# Altium integrated library BQ21040DBVR.IntLib: 1 symbol
Pins are listed as number, name and electrical type; pins without a type are passive.

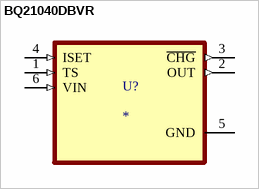
[diagram p0: symbol BQ21040DBVR]

## BQ21040DBVR
designator U?
1-cell, 0.8-A Li-ion and Li-polymer battery charger; MF: Texas Instruments; MP: BQ21040DBVR; SnapEDA_Link: https://www.snapeda.com/parts/BQ21040DBVR/Texas+Instruments/view-part/?ref=snap; Package: SOT-23-6 Texas Instruments; Value: *; Check_prices: https://www.snapeda.com/parts/BQ21040DBVR/Texas+Instruments/view-part/?ref=eda
footprint SOT95P280X145-6N
pins: 1 TS (in), 2 OUT (out), 3 ~{CHG} (out), 4 ISET (in), 5 GND (power), 6 VIN (in)